# EAGLE library part SM14B-SRSS (library con-JST SH)
JST SH series header 1.00mm pitch disconnectable crimp style connectors, horizontal (side entry type), 14 pins
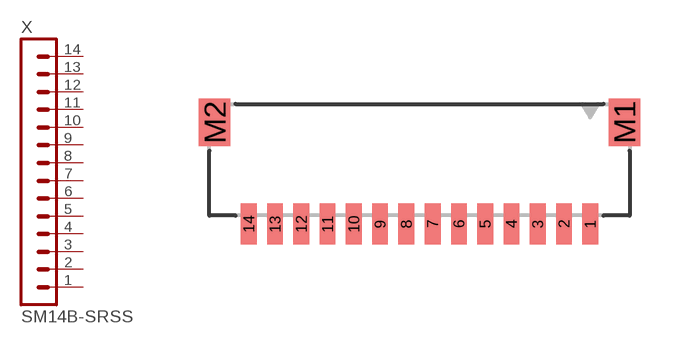
[diagram p18: symbol with the pads of SM14B-SRSS-TB; footprint SM14B-SRSS-TB]

Designator prefix X

## SM14B-SRSS-TB  [SM14B-SRSS-TB]
1  1  pas
2  2  pas
3  3  pas
4  4  pas
5  5  pas
6  6  pas
7  7  pas
8  8  pas
9  9  pas
10  10  pas
11  11  pas
12  12  pas
13  13  pas
14  14  pas

## Footprint SM14B-SRSS-TB (pad centres in mm)
JST SH series header 1.00mm pitch disconnectable crimp style connectors, SMT horizontal (side entry type), 14 pins
smd 0.6 x 1.55: 1 6.5,0; 2 5.5,0; 3 4.5,0; 4 3.5,0; 5 2.5,0; 6 1.5,0; 7 0.5,0; 8 -0.5,0; 9 -1.5,0; 10 -2.5,0; 11 -3.5,0; 12 -4.5,0; 13 -5.5,0; 14 -6.5,0
smd 1.2 x 1.8: M1 7.8,3.875; M2 -7.8,3.875